# EAGLE library part RFM75-S (library circuit_tree)
IC
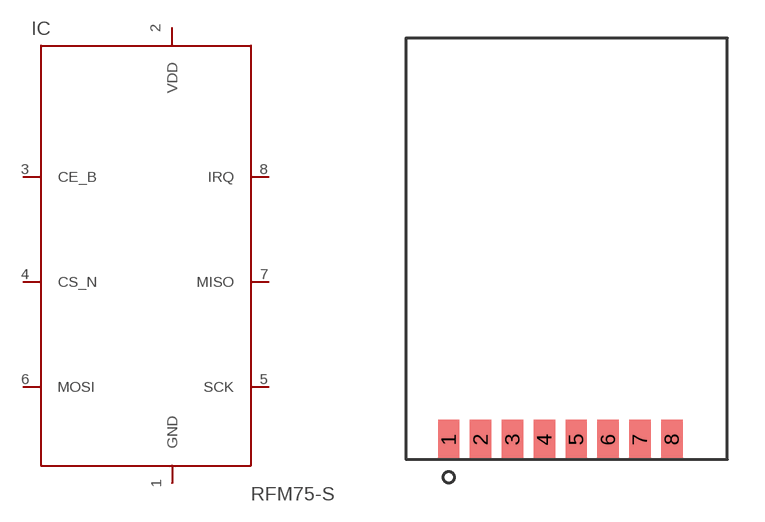
[diagram p3: symbol with the pads of RFM75-S; footprint RFM75-S]

Designator prefix IC

## RFM75-S  [RFM75-S]
1  GND  pas
2  VDD  pas
3  CE_B  pas
4  CS_N  pas
5  SCK  pas
6  MOSI  pas
7  MISO  pas
8  IRQ  pas

## Footprint RFM75-S (pad centres in mm)
smd 0.85 x 1.6: 1 1.7,0.8; 2 2.97,0.8; 3 4.24,0.8; 4 5.51,0.8; 5 6.78,0.8; 6 8.05,0.8; 7 9.32,0.8; 8 10.59,0.8